# Altium schematic symbol library WI-FI_1.Schlib: 1 symbol
Pins are listed as number, name and electrical type; pins without a type are passive.

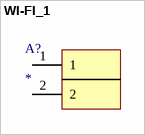
[diagram p0: symbol WI-FI_1]

## WI-FI_1
designator A?
pins: 1, 2